# Altium footprint library Oli.PcbLib: 2 footprints
Each footprint in its own frame and in the unit in brackets; x right, y up, seen from the top. Pads: shape width x height; smd on the part's side, far side on the other; paste and mask are expansions set on the pad; w line width, h text height; cw(c..) or ccw(c..) is an arc to the next point about the centre after c.
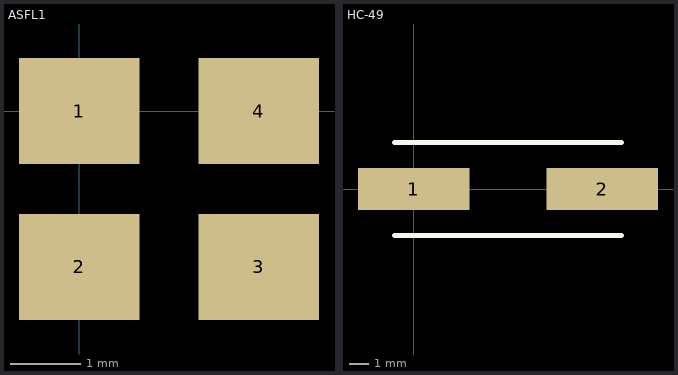
[diagram p0: the footprints below, top view; thin cyan lines are the x and y axes]

## ASFL1 [mm]
pads (4):
  rect 1.7x1.5 smd: 1(0,0) 2(0,-2.2) 3(2.54,-2.2) 4(2.54,0)

## HC-49 [mm]
pads (2):
  rect 5.6x2.1 smd: 1(0,0) 2(9.5,0)
Top Overlay:
  lines w0.254: -0.965,-2.35 10.465,-2.35 ; -0.965,2.35 10.465,2.35